# Altium footprint library ESP32WROOM32UEN16.PcbLib: 1 footprints
Each footprint in its own frame and in the unit in brackets; x right, y up, seen from the top. Pads: shape width x height; smd on the part's side, far side on the other; paste and mask are expansions set on the pad; w line width, h text height; cw(c..) or ccw(c..) is an arc to the next point about the centre after c.
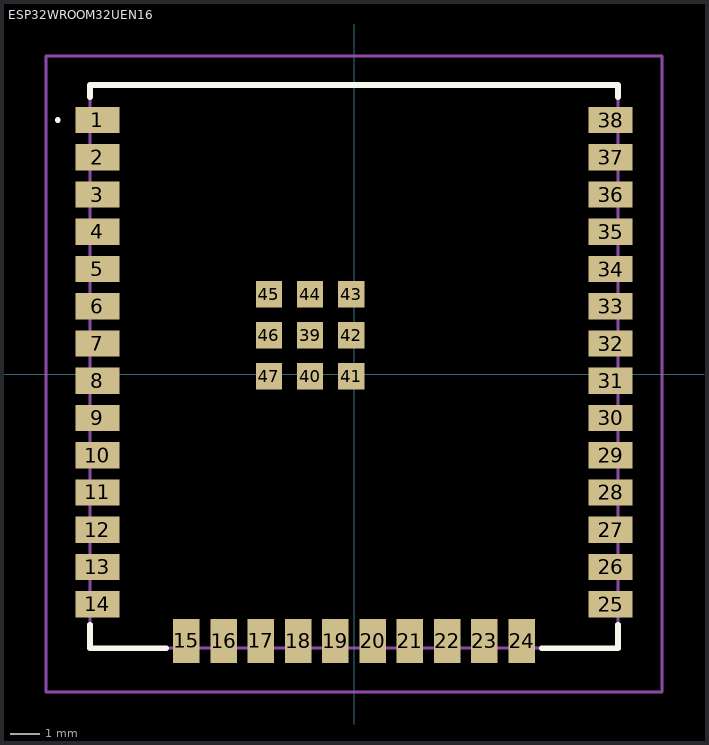
[diagram p0: the footprint, top view; thin cyan lines are the x and y axes]

## ESP32WROOM32UEN16 [mm]
pads (47):
  rect 1.5x0.9 smd: 1(-8.75,8.66) 2(-8.75,7.39) 3(-8.75,6.12) 4(-8.75,4.85) 5(-8.75,3.58) 6(-8.75,2.31) 7(-8.75,1.04) 8(-8.75,-0.23) 9(-8.75,-1.5) 10(-8.75,-2.77) 11(-8.75,-4.04) 12(-8.75,-5.31) 13(-8.75,-6.58) 14(-8.75,-7.85) 25(8.75,-7.85) 26(8.75,-6.58) 27(8.75,-5.31) 28(8.75,-4.04) 29(8.75,-2.77) 30(8.75,-1.5) 31(8.75,-0.23) 32(8.75,1.04) 33(8.75,2.31) 34(8.75,3.58) 35(8.75,4.85) 36(8.75,6.12) 37(8.75,7.39) 38(8.75,8.66)
  rect 0.9x1.5 smd: 15(-5.715,-9.1) 16(-4.445,-9.1) 17(-3.175,-9.1) 18(-1.905,-9.1) 19(-0.635,-9.1) 20(0.635,-9.1) 21(1.905,-9.1) 22(3.175,-9.1) 23(4.445,-9.1) 24(5.715,-9.1)
  rect 0.9x0.9 smd: 39(-1.5,1.32) 40(-1.5,-0.08) 41(-0.1,-0.08) 42(-0.1,1.32) 43(-0.1,2.72) 44(-1.5,2.72) 45(-2.9,2.72) 46(-2.9,1.32) 47(-2.9,-0.08)
Top Overlay:
  lines w0.1: -10.15,8.66 -10.15,8.66 ; -10.15,8.66 ccw(c-10.1,8.66) -10.05,8.66 ; -10.15,8.66 cw(c-10.1,8.66) -10.05,8.66 ; -10.05,8.66 -10.05,8.66
  lines w0.2: -9,-8.55 -9,-9.35 -6.4,-9.35 ; -9,9.45 -9,9.85 9,9.85 9,9.45 ; 6.4,-9.35 9,-9.35 9,-8.55
Mechanical 15:
  lines w0.1: -9,-9.35 9,-9.35 9,9.85 -9,9.85 -9,-9.35
Mechanical 20:
  lines w0.1: -10.5,-10.85 10.5,-10.85 10.5,10.85 -10.5,10.85 -10.5,-10.85